# Altium footprint library aiskylab-14Connectors-01FFC-FPC.PcbLib: 118 footprints (part 1 of 8)
Each footprint in its own frame and in the unit in brackets; x right, y up, seen from the top. Pads: shape width x height; smd on the part's side, far side on the other; paste and mask are expansions set on the pad; w line width, h text height; cw(c..) or ccw(c..) is an arc to the next point about the centre after c.
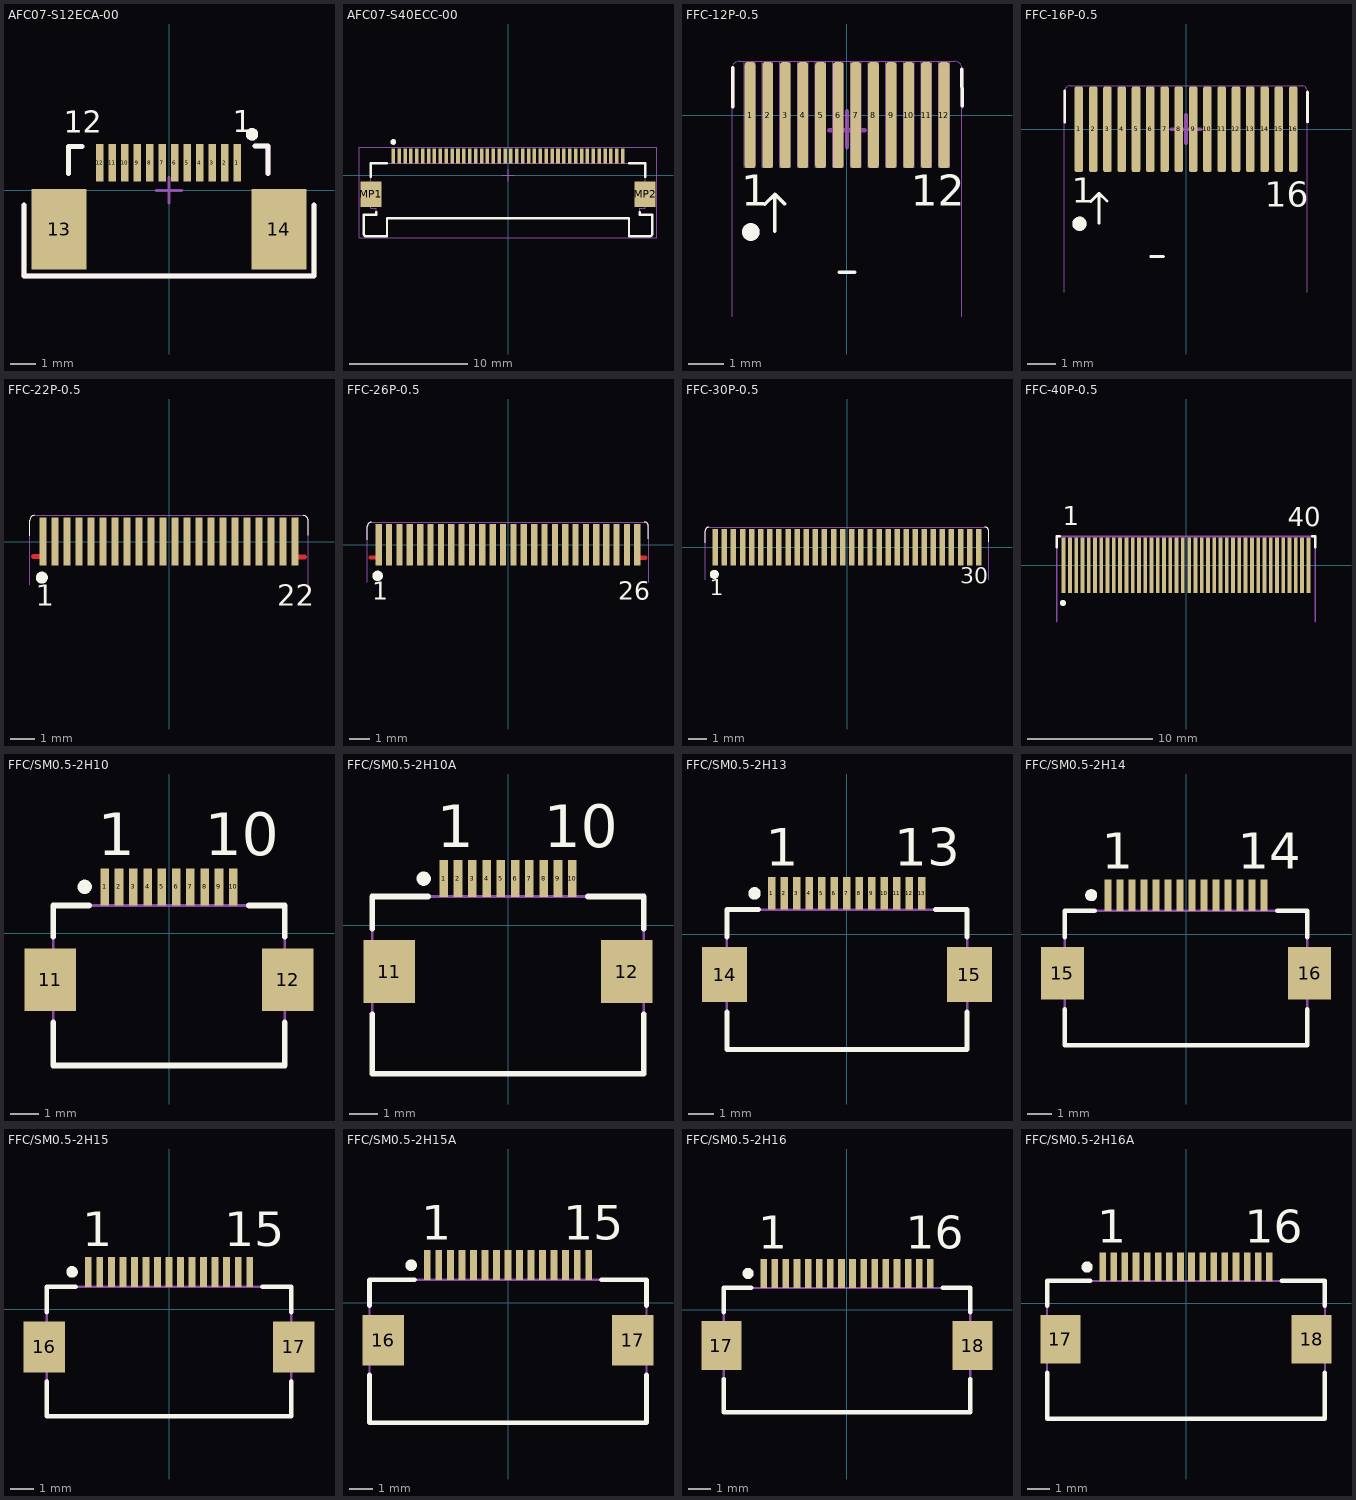
[diagram p0: the footprints below, top view; thin cyan lines are the x and y axes]

## AFC07-S12ECA-00 [mm]
pads (14):
  rect 0.3x1.5 smd: 1(2.725,1.112) 2(2.225,1.112) 3(1.725,1.112) 4(1.225,1.112) 5(0.725,1.112) 6(0.225,1.112) 7(-0.275,1.112) 8(-0.775,1.112) 9(-1.275,1.112) 10(-1.775,1.112) 11(-2.275,1.112) 12(-2.775,1.112)
  rect 2.2x3.22 smd: 13(-4.4,-1.55) 14(4.4,-1.55)
Top Overlay:
  circle w0.25: c3.325,2.25 r0.125
  lines w0.2: -5.8,-0.587 -5.8,-3.425 5.8,-3.425 5.8,-0.587 ; -4.022,0.669 -4.022,1.769 -3.48,1.769 ; 3.454,1.787 3.967,1.787 3.967,0.687
  text "1" at 2.55,2.039 h1.5
  text "12" at -4.225,2.014 h1.5
Top Designator:
  text ".Designator" at -7.618,-0.195 h1.52
Top Assembly:
  circle w0.25: c3.325,2.25 r0.125
  lines w0.2: -5.8,-0.587 -5.8,-3.425 5.8,-3.425 5.8,-0.587 ; -4.022,0.669 -4.022,1.769 -3.48,1.769 ; 3.454,1.787 3.967,1.787 3.967,0.687
  text "1" at 2.55,2.039 h1.5
  text "12" at -4.225,2.014 h1.5
Top Component Center:
  lines w0.127: -0.508,0 0.508,0 ; 0,-0.508 0,0.508
Top Component Outline:
  circle w0.25: c3.325,2.25 r0.125
  lines w0.2: -5.8,-0.587 -5.8,-3.425 5.8,-3.425 5.8,-0.587 ; -4.022,0.669 -4.022,1.769 -3.48,1.769 ; 3.454,1.787 3.967,1.787 3.967,0.687
3D body: height 1.8, standoff 0, extent -4.7,-2.175 4.7,1.625
3D body: height 2, standoff 0, extent -4.025,-1.5 3.975,1.625
3D body: height 2.2, standoff 0, extent -4.825,-2.25 4.925,-1.5

## AFC07-S40ECC-00 [mm]
pads (42):
  rect 0.3x1.3 smd paste-0.025: 1(-9.75,1.625) 2(-9.25,1.625) 3(-8.75,1.625) 4(-8.25,1.625) 5(-7.75,1.625) 6(-7.25,1.625) 7(-6.75,1.625) 8(-6.25,1.625) 9(-5.75,1.625) 10(-5.25,1.625) 11(-4.75,1.625) 12(-4.25,1.625) 13(-3.75,1.625) 14(-3.25,1.625) 15(-2.75,1.625) 16(-2.25,1.625) 17(-1.75,1.625) 18(-1.25,1.625) 19(-0.75,1.625) 20(-0.25,1.625) 21(0.25,1.625) 22(0.75,1.625) 23(1.25,1.625) 24(1.75,1.625) 25(2.25,1.625) 26(2.75,1.625) 27(3.25,1.625) 28(3.75,1.625) 29(4.25,1.625) 30(4.75,1.625) 31(5.25,1.625) 32(5.75,1.625) 33(6.25,1.625) 34(6.75,1.625) 35(7.25,1.625) 36(7.75,1.625) 37(8.25,1.625) 38(8.75,1.625) 39(9.25,1.625) 40(9.75,1.625)
  rect 1.8x2.2 smd: MP1(-11.65,-1.625) MP2(11.65,-1.625)
Top Overlay:
  circle w0.25: c-9.75,2.825 r0.125
  lines w0.2: -11.675,-0.125 -11.675,1 -10.3,1 ; -11.2,-3.125 -11.2,-3.35 -12.25,-3.35 -12.25,-5 ccw(c-12.05,-5) -12.05,-5.2 -10.285,-5.2 -10.285,-3.67 10.285,-3.67 10.285,-5.2 12.05,-5.2 ccw(c12.05,-5) 12.25,-5 12.25,-3.35 11.2,-3.35 11.2,-3.125 ; 10.3,1 11.675,1 11.675,-0.125
Top Designator:
  text ".Designator" at -7.618,-0.195 h1.52
Top Assembly:
  lines w0.1: -12.25,-5 ccw(c-12.05,-5) -12.05,-5.2 -10.285,-5.2 -10.285,-3.67 10.285,-3.67 10.285,-5.2 12.05,-5.2 ccw(c12.05,-5) 12.25,-5 12.25,-3.35 11.2,-3.35 11.2,-2.8 11.675,-2.8 11.675,1 -11.675,1 -11.675,-2.8 -11.2,-2.8 -11.2,-3.35 -12.25,-3.35 -12.25,-5
  text "1" at -10.1,2.5 h1.14
Top Component Center:
  lines w0.1: -0.5,0 0.5,0 ; 0,-0.5 0,0.5
Top Component Outline:
  lines w0.05: -12.65,-5.3 -12.65,2.375 12.65,2.375 12.65,-5.3 -12.65,-5.3
  lines w0.1: -0.5,0 0.5,0 ; 0,-0.5 0,0.5
Top 3D Body:
  lines w0.1: -12.25,-5 ccw(c-12.05,-5) -12.05,-5.2 -10.285,-5.2 -10.285,-3.67 10.285,-3.67 10.285,-5.2 12.05,-5.2 ccw(c12.05,-5) 12.25,-5 12.25,-3.35 11.2,-3.35 11.2,-2.8 11.675,-2.8 11.675,1 -11.675,1 -11.675,-2.8 -11.2,-2.8 -11.2,-3.35 -12.25,-3.35 -12.25,-5
3D body "x05b20u40g.stp": height 2.02, standoff 0.02, extent -12.8,-4.27 12.8,1.7

## FFC-12P-0.5 [mm]
pads (12):
  rrect50% 0.3x3 smd: 1(-2.743,0) 2(-2.244,0) 3(-1.746,0) 4(-1.247,0) 5(-0.748,0) 6(-0.249,0) 7(0.249,0) 8(0.748,0) 9(1.247,0) 10(1.746,0) 11(2.244,0) 12(2.743,0)
Top Overlay:
  circle w0.25: c-2.72,-3.306 r0.125
  lines w0.1: -3.234,0.244 -3.234,1.344 ; -2.325,-2.525 -2.037,-2.238 ; -2.037,-3.287 -2.037,-2.238 ; -1.762,-2.512 -2.037,-2.238 ; -0.225,-4.45 0.225,-4.45 ; 3.251,1.302 3.256,0.262
  text "1" at -2.997,-2.864 h1.5
  text "12" at 1.803,-2.864 h1.5
Board:
  lines w0.013: -3.25,-5.701 -3.25,1.321 cw(c-3.05,1.321) -3.05,1.521 3.05,1.521 cw(c3.05,1.321) 3.25,1.321 3.25,-5.701
Top Designator:
  text ".Designator" at -7.593,-0.57 h1.52
Top Assembly:
  circle w0.25: c-2.72,-3.306 r0.125
  lines w0.013: -3.25,-5.701 -3.25,1.321 cw(c-3.05,1.321) -3.05,1.521 3.05,1.521 cw(c3.05,1.321) 3.25,1.321 3.25,-5.701
  lines w0.1: -3.234,0.244 -3.234,1.344 ; 3.251,1.284 3.256,0.244
  text "12" at 1.803,-2.864 h1.5
  text "1" at -2.997,-2.864 h1.5
Top Component Center:
  lines w0.127: -0.508,-0.425 0.508,-0.425 ; 0,-0.908 0,0.108
Bottom Component Center:
  lines w0.013: -2.9,-1.479 -2.6,-1.479 -2.6,1.521 -2.9,1.521 -2.9,-1.479 ; -2.4,-1.479 -2.1,-1.479 -2.1,1.521 -2.4,1.521 -2.4,-1.479 ; -1.9,-1.479 -1.6,-1.479 -1.6,1.521 -1.9,1.521 -1.9,-1.479 ; -1.4,-1.479 -1.1,-1.479 -1.1,1.521 -1.4,1.521 -1.4,-1.479 ; -0.9,-1.479 -0.6,-1.479 -0.6,1.521 -0.9,1.521 -0.9,-1.479 ; -0.4,-1.479 -0.1,-1.479 -0.1,1.521 -0.4,1.521 -0.4,-1.479 ; 0.1,-1.479 0.4,-1.479 0.4,1.521 0.1,1.521 0.1,-1.479 ; 0.6,-1.479 0.9,-1.479 0.9,1.521 0.6,1.521 0.6,-1.479 ; 1.1,-1.479 1.4,-1.479 1.4,1.521 1.1,1.521 1.1,-1.479 ; 1.6,-1.479 1.9,-1.479 1.9,1.521 1.6,1.521 1.6,-1.479 ; 2.1,-1.479 2.4,-1.479 2.4,1.521 2.1,1.521 2.1,-1.479 ; 2.6,-1.479 2.9,-1.479 2.9,1.521 2.6,1.521 2.6,-1.479

## FFC-16P-0.5 [mm]
pads (16):
  rrect50% 0.3x3 smd: 1(-3.75,0) 2(-3.25,0) 3(-2.75,0) 4(-2.25,0) 5(-1.75,0) 6(-1.25,0) 7(-0.75,0) 8(-0.25,0) 9(0.25,0) 10(0.75,0) 11(1.25,0) 12(1.75,0) 13(2.25,0) 14(2.75,0) 15(3.25,0) 16(3.75,0)
Top Overlay:
  circle w0.25: c-3.727,-3.306 r0.125
  lines w0.1: -4.241,0.244 -4.241,1.344 ; -3.332,-2.525 -3.044,-2.238 ; -3.044,-3.287 -3.044,-2.238 ; -2.769,-2.512 -3.044,-2.238 ; -1.232,-4.45 -0.782,-4.45 ; 4.25,0.262 4.25,1.302
  text "16" at 2.75,-3 h1.5
  text "1" at -4.004,-2.864 h1.5
Board:
  lines w0.013: -4.257,-5.701 -4.257,1.321 cw(c-4.057,1.321) -4.057,1.521 4.05,1.521 cw(c4.05,1.321) 4.25,1.321 4.25,-5.701
Top Designator:
  text ".Designator" at -8.599,-0.57 h1.52
Top Assembly:
  circle w0.25: c-3.727,-3.306 r0.125
  lines w0.013: -4.257,-5.701 -4.257,1.321 cw(c-4.057,1.321) -4.057,1.521 4.05,1.521 cw(c4.05,1.321) 4.25,1.321 4.25,-5.701
  lines w0.1: -4.241,0.244 -4.241,1.344 ; 4.25,0.244 4.25,1.284
  text "1" at -4.004,-2.864 h1.5
  text "16" at 2.75,-3 h1.5
Top Component Center:
  lines w0.127: -0.508,0 0.508,0 ; 0,-0.483 0,0.5

## FFC-22P-0.5 [mm]
pads (22):
  rect 0.3x2 smd: 1(-5.25,0) 2(-4.75,0) 3(-4.25,0) 4(-3.75,0) 5(-3.25,0) 6(-2.75,0) 7(-2.25,0) 8(-1.75,0) 9(-1.25,0) 10(-0.75,0) 11(-0.25,0) 12(0.25,0) 13(0.75,0) 14(1.25,0) 15(1.75,0) 16(2.25,0) 17(2.75,0) 18(3.25,0) 19(3.75,0) 20(4.25,0) 21(4.75,0) 22(5.25,0)
Top Layer:
  lines w0.203: -5.643,-0.62 -5.249,-0.62 ; 5.249,-0.638 5.643,-0.638
Top Overlay:
  circle w0.25: c-5.3,-1.5 r0.125
  lines w0.05: -5.8,0.25 -5.8,0.892 ; -5.799,0.892 cw(c-5.599,0.892) -5.599,1.092 ; 5.6,1.081 cw(c5.6,0.881) 5.8,0.881 5.8,0.275
  text "1" at -5.554,-2.953 h1.5
  text "22" at 4.5,-2.953 h1.5
Board:
  lines w0.05: -5.8,-1.8 -5.8,0.891 ; -5.799,0.892 cw(c-5.599,0.892) -5.599,1.092 5.6,1.092 cw(c5.6,0.892) 5.8,0.892 5.8,-1.8

## FFC-26P-0.5 [mm]
pads (26):
  rect 0.3x2 smd: 1(-6.237,0) 2(-5.737,0) 3(-5.238,0) 4(-4.738,0) 5(-4.238,0) 6(-3.738,0) 7(-3.238,0) 8(-2.738,0) 9(-2.238,0) 10(-1.738,0) 11(-1.238,0) 12(-0.738,0) 13(-0.238,0) 14(0.262,0) 15(0.762,0) 16(1.262,0) 17(1.762,0) 18(2.262,0) 19(2.762,0) 20(3.262,0) 21(3.762,0) 22(4.262,0) 23(4.737,0) 24(5.237,0) 25(5.737,0) 26(6.237,0)
Top Layer:
  lines w0.203: -6.63,-0.62 -6.237,-0.62 ; 6.225,-0.62 6.619,-0.62
Top Overlay:
  circle w0.25: c-6.288,-1.5 r0.125
  lines w0.05: -6.788,0.25 -6.788,0.892 ; -6.786,0.892 cw(c-6.586,0.892) -6.586,1.092 ; 6.575,1.1 cw(c6.575,0.9) 6.775,0.9 6.775,0.294
  text "1" at -6.542,-2.953 h1.5
  text "26" at 5.325,-2.953 h1.5
Board:
  lines w0.05: -6.788,-1.8 -6.788,0.891 ; -6.786,0.892 cw(c-6.586,0.892) -6.586,1.092 ; -6.588,1.092 6.588,1.092 cw(c6.588,0.892) 6.788,0.892 6.788,-1.8

## FFC-30P-0.5 [mm]
pads (30):
  rect 0.3x2 smd: 1(-7.237,0) 2(-6.737,0) 3(-6.237,0) 4(-5.737,0) 5(-5.237,0) 6(-4.737,0) 7(-4.237,0) 8(-3.737,0) 9(-3.237,0) 10(-2.737,0) 11(-2.237,0) 12(-1.737,0) 13(-1.237,0) 14(-0.737,0) 15(-0.237,0) 16(0.263,0) 17(0.763,0) 18(1.263,0) 19(1.763,0) 20(2.263,0) 21(2.763,0) 22(3.263,0) 23(3.738,0) 24(4.238,0) 25(4.738,0) 26(5.238,0) 27(5.737,0) 28(6.237,0) 29(6.737,0) 30(7.237,0)
Top Overlay:
  circle w0.25: c-7.287,-1.5 r0.125
  lines w0.05: -7.787,0.25 -7.787,0.892 ; -7.786,0.892 cw(c-7.586,0.892) -7.586,1.092 ; 7.578,1.092 cw(c7.578,0.892) 7.778,0.892 7.778,0.286
  text "30" at 6.218,-2.325 h1.5
  text "1" at -7.541,-2.953 h1.5
Board:
  lines w0.05: -7.787,-1.8 -7.787,0.891 ; -7.786,0.892 cw(c-7.586,0.892) -7.586,1.092 ; -7.587,1.092 7.578,1.092 cw(c7.578,0.892) 7.778,0.892 7.778,-1.8

## FFC-40P-0.5 [mm]
pads (40):
  rect 0.3x4.4 smd: 1(-9.75,0) 2(-9.25,0) 3(-8.75,0) 4(-8.25,0) 5(-7.75,0) 6(-7.25,0) 7(-6.75,0) 8(-6.25,0) 9(-5.75,0) 10(-5.25,0) 11(-4.75,0) 12(-4.25,0) 13(-3.75,0) 14(-3.25,0) 15(-2.75,0) 16(-2.25,0) 17(-1.75,0) 18(-1.25,0) 19(-0.75,0) 20(-0.25,0) 21(0.25,0) 22(0.75,0) 23(1.25,0) 24(1.75,0) 25(2.25,0) 26(2.75,0) 27(3.25,0) 28(3.75,0) 29(4.25,0) 30(4.75,0) 31(5.25,0) 32(5.75,0) 33(6.25,0) 34(6.75,0) 35(7.25,0) 36(7.75,0) 37(8.25,0) 38(8.75,0) 39(9.25,0) 40(9.75,0)
Top Overlay:
  circle w0.25: c-9.8,-3 r0.125
  lines w0.2: -10.3,1.45 -10.3,2.3 -10.05,2.3 ; 10.05,2.3 10.3,2.3 10.3,1.439
  text "1" at -9.8,3.2 h1.5
  text "40" at 8.1,3.1 h1.5
Board:
  lines w0.152: -10.3,-4.5 -10.3,2.3 10.3,2.3 10.3,-4.5

## FFC/SM0.5-2H10 [mm] "Connector; FH12 Series; 10 Position; 0.5mm Spaced Bottom Contact"
height 2
pads (12):
  rect 0.3x1.3 smd: 1(-2.25,1.625) 2(-1.75,1.625) 3(-1.25,1.625) 4(-0.75,1.625) 5(-0.25,1.625) 6(0.25,1.625) 7(0.75,1.625) 8(1.25,1.625) 9(1.75,1.625) 10(2.25,1.625)
  rect 1.8x2.2 smd: 11(-4.15,-1.625) 12(4.15,-1.625)
Top Overlay:
  circle w0.25: c-2.95,1.625 r0.125
  lines w0.2: -4.05,-3.125 -4.05,-4.625 4.05,-4.625 4.05,-3.125 ; -4.05,-0.125 -4.05,0.975 -2.8,0.975 ; 2.8,0.975 4.05,0.975 4.05,-0.125
  text "10" at 1.25,2.725 h1.5
  text "1" at -2.5,2.725 h1.5
Bottom Value:
  lines w0.1: -4.05,-4.625 -4.05,0.975 4.05,0.975 4.05,-4.625 -4.05,-4.625

## FFC/SM0.5-2H10A [mm] "Connector; FH12 Series; 10 Position; 0.5mm Spaced Top Contact"
height 2
pads (12):
  rect 0.3x1.3 smd: 1(-2.25,1.625) 2(-1.75,1.625) 3(-1.25,1.625) 4(-0.75,1.625) 5(-0.25,1.625) 6(0.25,1.625) 7(0.75,1.625) 8(1.25,1.625) 9(1.75,1.625) 10(2.25,1.625)
  rect 1.8x2.2 smd: 11(-4.15,-1.625) 12(4.15,-1.625)
Top Overlay:
  circle w0.25: c-2.95,1.625 r0.125
  lines w0.2: -4.75,-3.125 -4.75,-5.2 4.75,-5.2 4.75,-3.125 ; -4.75,-0.125 -4.75,1 -2.8,1 ; 2.8,1 4.75,1 4.75,-0.125
  text "10" at 1.25,2.725 h1.5
  text "1" at -2.5,2.725 h1.5
Bottom Value:
  lines w0.1: -4.75,-5.2 4.75,-5.2 4.75,1 -4.75,1 -4.75,-5.2

## FFC/SM0.5-2H13 [mm] "Connector; FH12 Series; 13 Position; 0.5mm Spaced Bottom Contact"
height 2
pads (15):
  rect 0.3x1.3 smd: 1(-3,1.625) 2(-2.5,1.625) 3(-2,1.625) 4(-1.5,1.625) 5(-1,1.625) 6(-0.5,1.625) 7(0,1.625) 8(0.5,1.625) 9(1,1.625) 10(1.5,1.625) 11(2,1.625) 12(2.5,1.625) 13(3,1.625)
  rect 1.8x2.2 smd: 14(-4.9,-1.625) 15(4.9,-1.625)
Top Overlay:
  circle w0.25: c-3.7,1.625 r0.125
  lines w0.2: -4.8,-3.125 -4.8,-4.625 4.8,-4.625 4.8,-3.125 ; -4.8,-0.125 -4.8,0.975 -3.55,0.975 ; 3.55,0.975 4.8,0.975 4.8,-0.125
  text "13" at 1.9,2.725 h1.5
  text "1" at -3.25,2.725 h1.5
Bottom Value:
  lines w0.1: -4.8,-4.625 4.8,-4.625 4.8,0.975 -4.8,0.975 -4.8,-4.625

## FFC/SM0.5-2H14 [mm] "Connector; FH12 Series; 14 Position; 0.5mm Spaced Bottom Contact"
height 2
pads (16):
  rect 0.3x1.3 smd: 1(-3.25,1.625) 2(-2.75,1.625) 3(-2.25,1.625) 4(-1.75,1.625) 5(-1.25,1.625) 6(-0.75,1.625) 7(-0.25,1.625) 8(0.25,1.625) 9(0.75,1.625) 10(1.25,1.625) 11(1.75,1.625) 12(2.25,1.625) 13(2.75,1.625) 14(3.25,1.625)
  rect 1.8x2.2 smd: 15(-5.15,-1.625) 16(5.15,-1.625)
Top Overlay:
  circle w0.25: c-3.95,1.625 r0.125
  lines w0.2: -5.05,-3.125 -5.05,-4.625 5.05,-4.625 5.05,-3.125 ; -5.05,-0.125 -5.05,0.975 -3.8,0.975 ; 3.8,0.975 5.05,0.975 5.05,-0.125
  text "1" at -3.5,2.725 h1.5
  text "14" at 2.15,2.725 h1.5
Bottom Value:
  lines w0.1: -5.05,-4.625 -5.05,0.975 5.05,0.975 5.05,-4.625 -5.05,-4.625

## FFC/SM0.5-2H15 [mm] "Connector; FH12 Series; 15 Position; 0.5mm Spaced Bottom Contact"
height 2
pads (17):
  rect 0.3x1.3 smd: 1(-3.5,1.625) 2(-3,1.625) 3(-2.5,1.625) 4(-2,1.625) 5(-1.5,1.625) 6(-1,1.625) 7(-0.5,1.625) 8(0,1.625) 9(0.5,1.625) 10(1,1.625) 11(1.5,1.625) 12(2,1.625) 13(2.5,1.625) 14(3,1.625) 15(3.5,1.625)
  rect 1.8x2.2 smd: 16(-5.4,-1.625) 17(5.4,-1.625)
Top Overlay:
  circle w0.25: c-4.2,1.625 r0.125
  lines w0.2: -5.3,-3.125 -5.3,-4.625 5.3,-4.625 5.3,-3.125 ; -5.3,-0.125 -5.3,0.975 -4.05,0.975 ; 4.05,0.975 5.3,0.975 5.3,-0.125
  text "1" at -3.75,2.725 h1.5
  text "15" at 2.4,2.725 h1.5
Bottom Value:
  lines w0.1: -5.3,-4.625 5.3,-4.625 5.3,0.975 -5.3,0.975 -5.3,-4.625

## FFC/SM0.5-2H15A [mm] "Connector; FH12 Series; 15 Position; 0.5mm Spaced Top Contact"
height 2
pads (17):
  rect 0.3x1.3 smd: 1(-3.5,1.625) 2(-3,1.625) 3(-2.5,1.625) 4(-2,1.625) 5(-1.5,1.625) 6(-1,1.625) 7(-0.5,1.625) 8(0,1.625) 9(0.5,1.625) 10(1,1.625) 11(1.5,1.625) 12(2,1.625) 13(2.5,1.625) 14(3,1.625) 15(3.5,1.625)
  rect 1.8x2.2 smd: 16(-5.4,-1.625) 17(5.4,-1.625)
Top Overlay:
  circle w0.25: c-4.2,1.625 r0.125
  lines w0.2: -6,-3.125 -6,-5.2 6,-5.2 6,-3.125 ; -6,-0.125 -6,1 -4.05,1 ; 4.05,1 6,1 6,-0.125
  text "15" at 2.4,2.725 h1.5
  text "1" at -3.75,2.725 h1.5
Bottom Value:
  lines w0.1: -6,-5.2 6,-5.2 6,1 -6,1 -6,-5.2

## FFC/SM0.5-2H16 [mm] "Connector; FH12 Series; 16 Position; 0.5mm Spaced Bottom Contact"
height 2
pads (18):
  rect 0.3x1.3 smd: 1(-3.75,1.625) 2(-3.25,1.625) 3(-2.75,1.625) 4(-2.25,1.625) 5(-1.75,1.625) 6(-1.25,1.625) 7(-0.75,1.625) 8(-0.25,1.625) 9(0.25,1.625) 10(0.75,1.625) 11(1.25,1.625) 12(1.75,1.625) 13(2.25,1.625) 14(2.75,1.625) 15(3.25,1.625) 16(3.75,1.625)
  rect 1.8x2.2 smd: 17(-5.65,-1.625) 18(5.65,-1.625)
Top Overlay:
  circle w0.25: c-4.45,1.625 r0.125
  lines w0.2: -5.55,-3.125 -5.55,-4.625 5.55,-4.625 5.55,-3.125 ; -5.55,-0.125 -5.55,0.975 -4.3,0.975 ; 4.3,0.975 5.55,0.975 5.55,-0.125
  text "1" at -4,2.725 h1.5
  text "16" at 2.65,2.725 h1.5
Bottom Value:
  lines w0.1: -5.55,-4.625 -5.55,0.975 5.55,0.975 5.55,-4.625 -5.55,-4.625

## FFC/SM0.5-2H16A [mm] "Connector; FH12 Series; 16 Position; 0.5mm Spaced Top Contact"
height 2
pads (18):
  rect 0.3x1.3 smd: 1(-3.75,1.625) 2(-3.25,1.625) 3(-2.75,1.625) 4(-2.25,1.625) 5(-1.75,1.625) 6(-1.25,1.625) 7(-0.75,1.625) 8(-0.25,1.625) 9(0.25,1.625) 10(0.75,1.625) 11(1.25,1.625) 12(1.75,1.625) 13(2.25,1.625) 14(2.75,1.625) 15(3.25,1.625) 16(3.75,1.625)
  rect 1.8x2.2 smd: 17(-5.65,-1.625) 18(5.65,-1.625)
Top Overlay:
  circle w0.25: c-4.45,1.625 r0.125
  lines w0.2: -6.25,-3.125 -6.25,-5.2 6.25,-5.2 6.25,-3.125 ; -6.25,-0.125 -6.25,1 -4.3,1 ; 4.3,1 6.25,1 6.25,-0.125
  text "1" at -4,2.725 h1.5
  text "16" at 2.65,2.725 h1.5
Bottom Value:
  lines w0.1: -6.25,-5.2 6.25,-5.2 6.25,1 -6.25,1 -6.25,-5.2